# Altium footprint library Ohmite.PcbLib: 1 footprints
Each footprint in its own frame and in the unit in brackets; x right, y up, seen from the top. Pads: shape width x height; smd on the part's side, far side on the other; paste and mask are expansions set on the pad; w line width, h text height; cw(c..) or ccw(c..) is an arc to the next point about the centre after c.
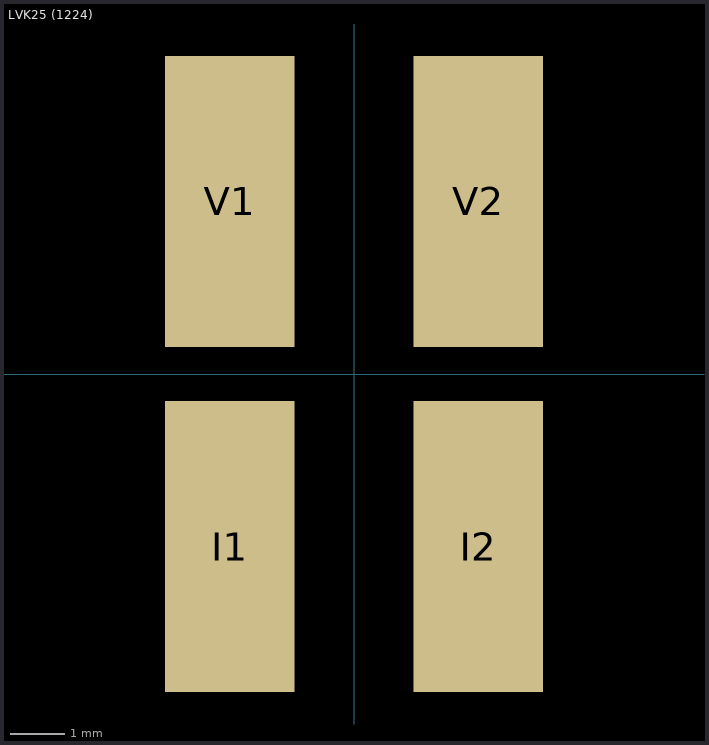
[diagram p0: the footprint, top view; thin cyan lines are the x and y axes]

## LVK25 (1224) [mm]
pads (4):
  rect 2.4x5.4 smd: I1(-2.3,-3.2) I2(2.3,-3.2) V1(-2.3,3.2) V2(2.3,3.2)
3D body: height 0.7, standoff 0, extent -3.5,-6 3.5,6